# EAGLE library part STM8S207C8T6 (library ST Microelectronics)
10-bit ADC,timers, 2 UARTs, SPI, I²C, CAN
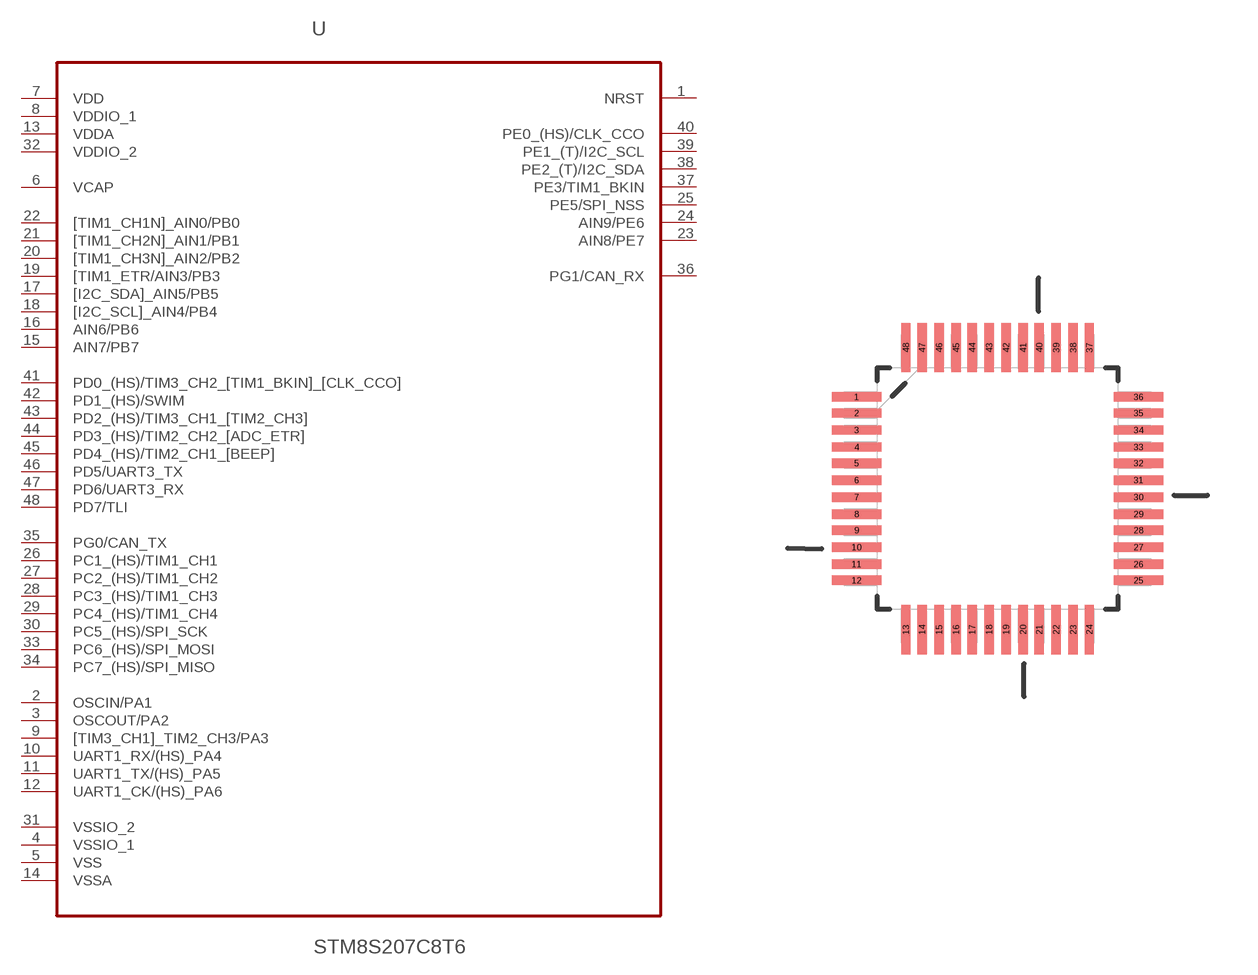
[diagram p365: symbol with the pads of QFP50P900X900X160-48N; footprint QFP50P900X900X160-48N]

Designator prefix U

## STM8S207C8T6 (MPN: STM8S207C8T6; OC_FARNELL: 1683825; OC_NEWARK: 70K3229; PACKAGE: QFP-48; SUPPLIER: STMICROELECTRONICS)  [QFP50P900X900X160-48N]
1  NRST
2  OSCIN/PA1
3  OSCOUT/PA2
4  VSSIO_1  pas
5  VSS  pas
6  VCAP  pas
7  VDD  pwr
8  VDDIO_1  pwr
9  [TIM3_CH1]_TIM2_CH3/PA3
10  UART1_RX/(HS)_PA4
11  UART1_TX/(HS)_PA5
12  UART1_CK/(HS)_PA6
13  VDDA  pwr
14  VSSA  pas
15  AIN7/PB7
16  AIN6/PB6
17  [I2C_SDA]_AIN5/PB5
18  [I2C_SCL]_AIN4/PB4
19  [TIM1_ETR/AIN3/PB3
20  [TIM1_CH3N]_AIN2/PB2
21  [TIM1_CH2N]_AIN1/PB1
22  [TIM1_CH1N]_AIN0/PB0
23  AIN8/PE7
24  AIN9/PE6
25  PE5/SPI_NSS
26  PC1_(HS)/TIM1_CH1
27  PC2_(HS)/TIM1_CH2
28  PC3_(HS)/TIM1_CH3
29  PC4_(HS)/TIM1_CH4
30  PC5_(HS)/SPI_SCK
31  VSSIO_2  pas
32  VDDIO_2  pwr
33  PC6_(HS)/SPI_MOSI
34  PC7_(HS)/SPI_MISO
35  PG0/CAN_TX
36  PG1/CAN_RX
37  PE3/TIM1_BKIN
38  PE2_(T)/I2C_SDA
39  PE1_(T)/I2C_SCL
40  PE0_(HS)/CLK_CCO
41  PD0_(HS)/TIM3_CH2_[TIM1_BKIN]_[CLK_CCO]
42  PD1_(HS)/SWIM
43  PD2_(HS)/TIM3_CH1_[TIM2_CH3]
44  PD3_(HS)/TIM2_CH2_[ADC_ETR]
45  PD4_(HS)/TIM2_CH1_[BEEP]
46  PD5/UART3_TX
47  PD6/UART3_RX
48  PD7/TLI

## Footprint QFP50P900X900X160-48N (pad centres in mm)
smd 1.473 x 0.279: 1 -4.216,2.743; 2 -4.216,2.261; 3 -4.216,1.753; 4 -4.216,1.245; 5 -4.216,0.762; 6 -4.216,0.254; 7 -4.216,-0.254; 8 -4.216,-0.762; 9 -4.216,-1.245; 10 -4.216,-1.753; 11 -4.216,-2.261; 12 -4.216,-2.743; 25 4.216,-2.743; 26 4.216,-2.261; 27 4.216,-1.753; 28 4.216,-1.245; 29 4.216,-0.762; 30 4.216,-0.254; 31 4.216,0.254; 32 4.216,0.762; 33 4.216,1.245; 34 4.216,1.753; 35 4.216,2.261; 36 4.216,2.743
smd 0.279 x 1.473: 13 -2.743,-4.216; 14 -2.261,-4.216; 15 -1.753,-4.216; 16 -1.245,-4.216; 17 -0.762,-4.216; 18 -0.254,-4.216; 19 0.254,-4.216; 20 0.762,-4.216; 21 1.245,-4.216; 22 1.753,-4.216; 23 2.261,-4.216; 24 2.743,-4.216; 37 2.743,4.216; 38 2.261,4.216; 39 1.753,4.216; 40 1.245,4.216; 41 0.762,4.216; 42 0.254,4.216; 43 -0.254,4.216; 44 -0.762,4.216; 45 -1.245,4.216; 46 -1.753,4.216; 47 -2.261,4.216; 48 -2.743,4.216